# EAGLE library part MCP9600 (library Sensors > Temperature Sensors)
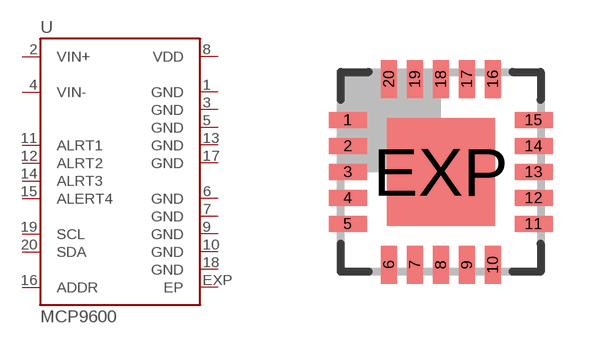
[diagram p0: symbol with the pads of TQFN20-5X5; footprint TQFN20-5X5]

Designator prefix U

## MCP9600  [TQFN20-5X5]
1  GND
2  VIN+
3  GND
4  VIN-
5  GND
6  GND
7  GND
8  VDD
9  GND
10  GND
11  ALRT1
12  ALRT2
13  GND
14  ALRT3
15  ALERT4
16  ADDR
17  GND
18  GND
19  SCL
20  SDA
EXP  EP

## Footprint TQFN20-5X5 (pad centres in mm)
THIN QFN 20 5x5x0.75mm Source: http://pdfserv.maxim-ic.com/package_dwgs/21-0140.PDF
smd 0.95 x 0.4: 1 -2.325,1.3; 2 -2.325,0.65; 3 -2.325,0; 4 -2.325,-0.65; 5 -2.325,-1.3; 11 2.325,-1.3; 12 2.325,-0.65; 13 2.325,0; 14 2.325,0.65; 15 2.325,1.3
smd 0.4 x 0.95: 6 -1.3,-2.325; 7 -0.65,-2.325; 8 0,-2.325; 9 0.65,-2.325; 10 1.3,-2.325; 16 1.3,2.325; 17 0.65,2.325; 18 0,2.325; 19 -0.65,2.325; 20 -1.3,2.325
smd 2.7 x 2.7: EXP 0,0